# Altium footprint library SM_XTAL_3P-CAN.PcbLib: 1 footprints
Each footprint in its own frame and in the unit in brackets; x right, y up, seen from the top. Pads: shape width x height; smd on the part's side, far side on the other; paste and mask are expansions set on the pad; w line width, h text height; cw(c..) or ccw(c..) is an arc to the next point about the centre after c.
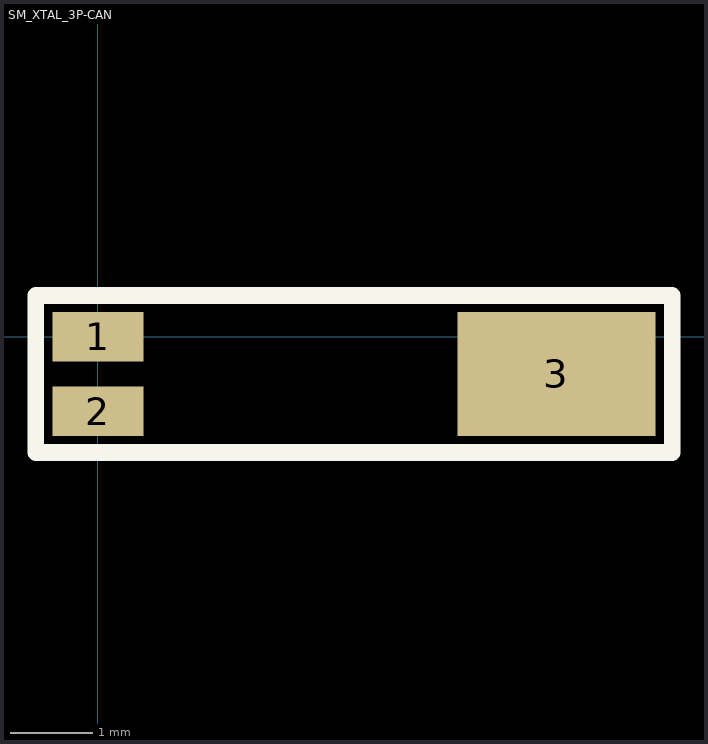
[diagram p0: the footprint, top view; thin cyan lines are the x and y axes]

## SM_XTAL_3P-CAN [mm] "AB26TRQ Crystal Miniature square-body, formed lead SMD package: 5.2 x 1.45 x   1.45mm"
height 1.48
pads (3):
  rect 1.1x0.6 smd: 1(0,0) 2(0,-0.9)
  rect 2.4x1.5 smd: 3(5.55,-0.45)
Top Overlay:
  lines w0.2: -0.75,-1.4 6.95,-1.4 6.95,0.5 -0.75,0.5 -0.75,-1.4
Mechanical 5:
  lines w0.1: -0.7,-1.35 -0.7,0.45 6.9,0.45 6.9,-1.35 -0.7,-1.35
3D body "AB26TRQ.STEP": height 1.65, standoff 0, extent -0.3,-1.175 6.404,0.275